# Altium footprint library PINPAD.PCBLIB: 151 footprints (part 7 of 10)
Each footprint in its own frame and in the unit in brackets; x right, y up, seen from the top. Pads: shape width x height; smd on the part's side, far side on the other; paste and mask are expansions set on the pad; w line width, h text height; cw(c..) or ccw(c..) is an arc to the next point about the centre after c.
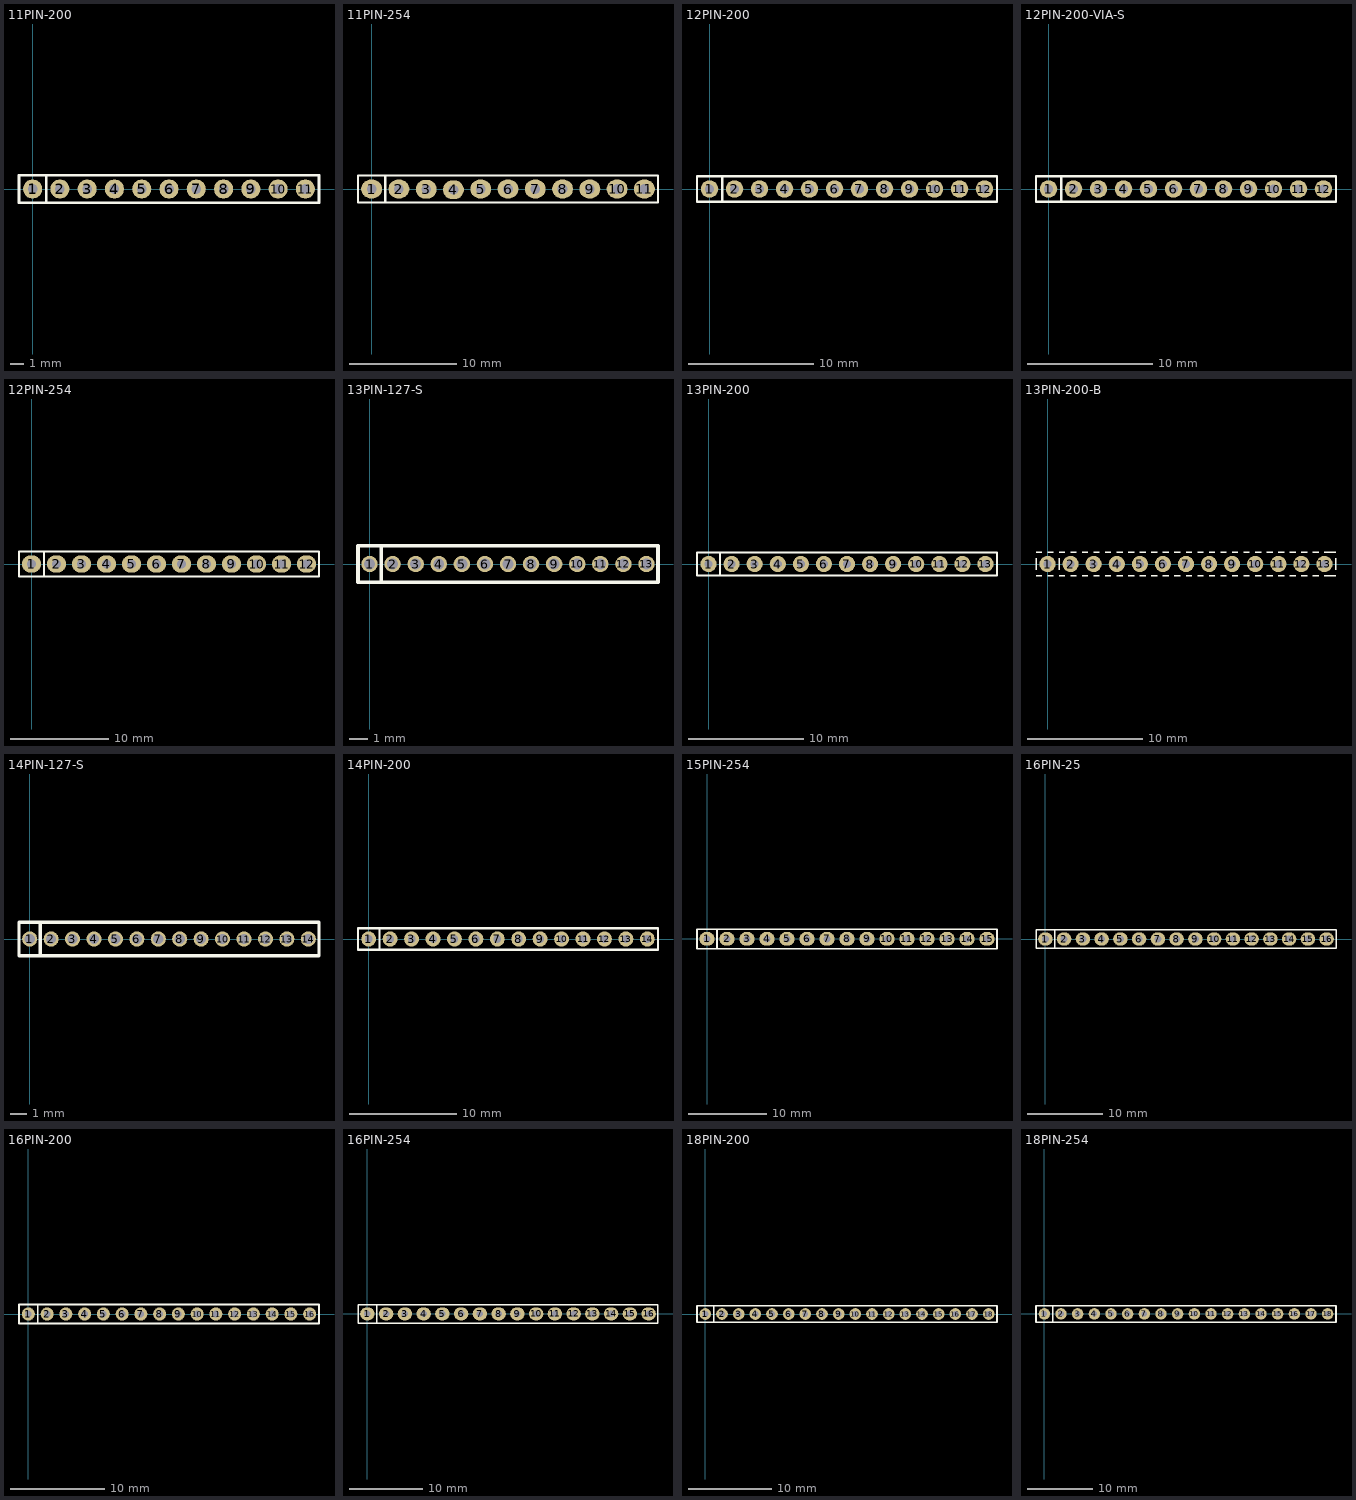
[diagram p6: the footprints below, top view; thin cyan lines are the x and y axes]

## 11PIN-200 [mm]
pads (11):
  round 1.4 hole 0.7: 1(0,0) 2(2,0) 3(4,0) 4(6,0) 5(8,0) 6(10,0) 7(12,0) 8(14,0) 9(16,0) 10(18,0) 11(20,0)
TopOverlay:
  lines w0.2: 1,-1 1,0.975 ; -1,-1 -1,1 21,1 21,-1 -1,-1

## 11PIN-254 [mm]
pads (11):
  oval 1.95x1.75 hole 0.9: 1(0,0) 2(2.54,0) 3(5.08,-0.025) 4(7.62,-0.075) 5(10.16,0) 6(12.7,0) 7(15.24,0) 8(17.78,0) 9(20.32,0) 10(22.86,0) 11(25.4,0)
TopOverlay:
  lines w0.2: 1.27,-1.27 1.27,1.27 ; -1.27,-1.27 -1.27,1.27 26.67,1.23 26.67,-1.27 -1.27,-1.27

## 12PIN-200 [mm]
pads (12):
  round 1.4 hole 0.7: 1(0,0) 2(2,0) 3(4,0) 4(6,0) 5(8,0) 6(10,0) 7(12,0) 8(14,0) 9(16,0) 10(18,0) 11(20,0) 12(22,0)
TopOverlay:
  lines w0.2: 1,-1 1,0.975 ; -1,-1 23,-1 23,1 -1,1 -1,-1

## 12PIN-200-VIA-S [mm]
pads (12):
  round 1.4 hole 0.7: 1(0,0) 2(2,0) 3(4,0) 4(6,0) 5(8,0) 6(10,0) 7(12,0) 8(14,0) 9(16,0) 10(18,0) 11(20,0) 12(22,0)
TopOverlay:
  lines w0.2: 1,-1 1,0.975 ; -1,-1 23,-1 23,1 -1,1 -1,-1

## 12PIN-254 [mm] "12PIN-254"
pads (12):
  oval 1.95x1.75 hole 0.9: 1(0,0) 2(2.54,0) 3(5.08,0) 4(7.62,0) 5(10.16,0) 6(12.7,0) 7(15.24,0) 8(17.78,0) 9(20.32,0) 10(22.86,0) 11(25.4,0) 12(27.94,0)
TopOverlay:
  lines w0.2: 1.25,-1.2 1.25,1.25 ; -1.27,-1.25 -1.27,1.25 29.21,1.25 29.21,-1.25 -1.27,-1.25

## 13PIN-127-S [mm]
pads (13):
  round 0.9 hole 0.6: 1(0,0) 2(1.27,0) 3(2.54,0) 4(3.81,0) 5(5.08,0) 6(6.35,0) 7(7.62,0) 8(8.89,0) 9(10.16,0) 10(11.43,0) 11(12.7,0) 12(13.97,0) 13(15.24,0)
TopOverlay:
  lines w0.2: 0.635,-1 0.635,1 ; -0.635,-1 15.875,-1 15.875,1 -0.635,1 -0.635,-1

## 13PIN-200 [mm]
pads (13):
  round 1.4 hole 0.7: 1(0,0) 2(2,0) 3(4,0) 4(6,0) 5(8,0) 6(10,0) 7(12,0) 8(14,0) 9(16,0) 10(18,0) 11(20,0) 12(22,0) 13(24,0)
TopOverlay:
  lines w0.2: 1,-1 1,0.975 ; -1,-1 -1,1 25,1 25,-1 -1,-1

## 13PIN-200-B [mm]
pads (13):
  round 1.4 hole 0.7: 1(0,0) 2(2,0) 3(4,0) 4(6,0) 5(8,0) 6(10,0) 7(12,0) 8(14,0) 9(16,0) 10(18,0) 11(20,0) 12(22,0) 13(24,0)
TopOverlay:
  lines w0.127: -1,-1 -0.5,-1 ; -1,-0.5 -1,0.5 ; -1,1 -0.5,1 ; 0,-1 0.5,-1 ; 0,1 0.5,1 ; 1,-1 1.5,-1 ; 1,-0.5 1,0.5 ; 1,1 1.5,1 ; 2,-1 2.5,-1 ; 2,1 2.5,1 ; 3,-1 3.5,-1 ; 3,1 3.5,1 ; 4,-1 4.5,-1 ; 4,1 4.5,1 ; 5,-1 5.5,-1 ; 5,1 5.5,1 ; 6,-1 6.5,-1 ; 6,1 6.5,1 ; 7,-1 7.5,-1 ; 7,1 7.5,1 ; 8,-1 8.5,-1 ; 8,1 8.5,1 ; 9,-1 9.5,-1 ; 9,1 9.5,1 ; 10,-1 10.5,-1 ; 10,1 10.5,1 ; 11,-1 11.5,-1 ; 11,1 11.5,1 ; 12,-1 12.5,-1 ; 12,1 12.5,1 ; 13,-1 13.5,-1 ; 13,1 13.5,1 ; 14,-1 14.5,-1 ; 14,1 14.5,1 ; 15,-1 15.5,-1 ; 15,1 15.5,1 ; 16,-1 16.5,-1 ; 16,1 16.5,1 ; 17,-1 17.5,-1 ; 17,1 17.5,1 ; 18,-1 18.5,-1 ; 18,1 18.5,1 ; 19,-1 19.5,-1 ; 19,1 19.5,1 ; 20,-1 20.5,-1 ; 20,1 20.5,1 ; 21,-1 21.5,-1 ; 21,1 21.5,1 ; 22,-1 22.5,-1 ; 22,1 22.5,1 ; 23,-1 23.5,-1 ; 23,1 23.5,1 ; 24,-1 24.5,-1 25,-1 ; 24,1 24.5,1 25,1 ; 25,-0.5 25,0.5

## 14PIN-127-S [mm]
pads (14):
  round 0.9 hole 0.6: 1(0,0) 2(1.27,0) 3(2.54,0) 4(3.81,0) 5(5.08,0) 6(6.35,0) 7(7.62,0) 8(8.89,0) 9(10.16,0) 10(11.43,0) 11(12.7,0) 12(13.97,0) 13(15.24,0) 14(16.51,0)
TopOverlay:
  lines w0.2: 0.635,-1 0.635,1 ; -0.635,-1 17.145,-1 17.145,1 -0.635,1 -0.635,-1

## 14PIN-200 [mm]
pads (14):
  round 1.4 hole 0.7: 1(0,0) 2(2,0) 3(4,0) 4(6,0) 5(8,0) 6(10,0) 7(12,0) 8(14,0) 9(16,0) 10(18,0) 11(20,0) 12(22,0) 13(24,0) 14(26,0)
TopOverlay:
  lines w0.2: 1,-1 1,0.975 ; -1,-1 27,-1 27,1 -1,1 -1,-1

## 15PIN-254 [mm]
pads (15):
  oval 1.95x1.75 hole 0.9: 1(0,0) 2(2.54,0) 3(5.08,0) 4(7.62,0) 5(10.16,0) 6(12.7,0) 7(15.24,0) 8(17.78,0) 9(20.32,0) 10(22.86,0) 11(25.4,0) 12(27.94,0) 13(30.48,0) 14(33.02,0) 15(35.56,0)
TopOverlay:
  lines w0.2: 1.27,-1.27 1.27,1.18 ; -1.27,-1.27 -1.27,1.23 36.83,1.23 36.83,-1.27 -1.27,-1.27

## 16PIN-25 [mm]
pads (16):
  oval 1.95x1.75 hole 0.9: 1(0,0) 2(2.5,0) 3(5,0) 4(7.5,0) 5(10,0) 6(12.5,0) 7(15,0) 8(17.5,0) 9(20,0) 10(22.5,0) 11(25,0) 12(27.5,0) 13(30,0) 14(32.5,0) 15(35,0) 16(37.5,0)
TopOverlay:
  lines w0.2: 1.25,-1.25 1.25,1.25 ; -1.25,-1.25 -1.25,1.25 38.75,1.25 38.75,-1.25 -1.25,-1.25

## 16PIN-200 [mm]
pads (16):
  round 1.4 hole 0.7: 1(0,0) 2(2,0) 3(4,0) 4(6,0) 5(8,0) 6(10,0) 7(12,0) 8(14,0) 9(16,0) 10(18,0) 11(20,0) 12(22,0) 13(24,0) 14(26,0) 15(28,0) 16(30,0)
TopOverlay:
  lines w0.2: 1,-1 1,0.975 ; -1,-1 31,-1 31,1 -1,1 -1,-1

## 16PIN-254 [mm]
pads (16):
  oval 1.95x1.75 hole 0.9: 1(0,0) 2(2.54,0) 3(5.08,0) 4(7.62,0) 5(10.16,0) 6(12.7,0) 7(15.24,0) 8(17.78,0) 9(20.32,0) 10(22.86,0) 11(25.4,0) 12(27.94,0) 13(30.48,0) 14(33.02,0) 15(35.56,0) 16(38.1,0)
TopOverlay:
  lines w0.2: 1.27,-1.27 1.27,1.18 ; -1.27,-1.27 39.37,-1.27 39.37,1.23 -1.27,1.23 -1.27,-1.27

## 18PIN-200 [mm]
pads (18):
  round 1.4 hole 0.7: 1(0,0) 2(2,0) 3(4,0) 4(6,0) 5(8,0) 6(10,0) 7(12,0) 8(14,0) 9(16,0) 10(18,0) 11(20,0) 12(22,0) 13(24,0) 14(26,0) 15(28,0) 16(30,0) 17(32,0) 18(34,0)
TopOverlay:
  lines w0.2: 1,-1 1,0.975 ; -1,-1 -1,1 35,1 35,-1 -1,-1

## 18PIN-254 [mm] "18PIN-254"
pads (18):
  round 1.75 hole 0.85: 1(0,0) 2(2.54,0) 3(5.08,0) 4(7.62,0) 5(10.16,0) 6(12.7,0) 7(15.24,0) 8(17.78,0) 9(20.32,0) 10(22.86,0) 11(25.4,0) 12(27.94,0) 13(30.48,0) 14(33.02,0) 15(35.56,0) 16(38.1,0) 17(40.64,0) 18(43.18,0)
TopOverlay:
  lines w0.254: 1.27,-1.27 1.27,1.23 ; -1.27,-1.27 44.45,-1.27 44.45,1.23 -1.27,1.23 -1.27,-1.27